# Altium footprint library Энкодеры.PcbLib: 1 footprints
Each footprint in its own frame and in the unit in brackets; x right, y up, seen from the top. Pads: shape width x height; smd on the part's side, far side on the other; paste and mask are expansions set on the pad; w line width, h text height; cw(c..) or ccw(c..) is an arc to the next point about the centre after c.
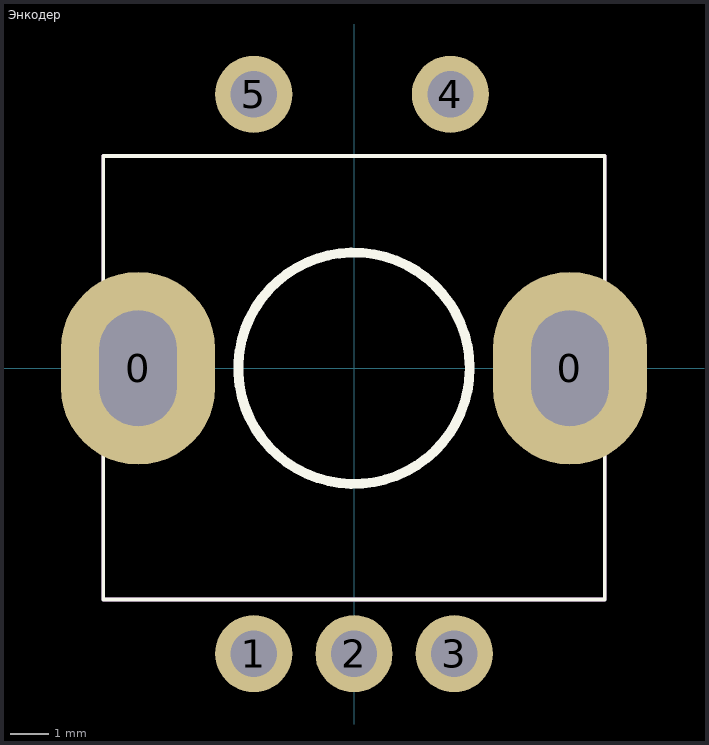
[diagram p0: the footprint, top view; thin cyan lines are the x and y axes]

## Энкодер [mm]
pads (7):
  oval 4x5 hole 2 slot 3 at 90 deg: 0(-5.6,0) 0(5.6,0)
  round 2 hole 1.2: 1(-2.6,-7.4) 2(0,-7.4) 3(2.6,-7.4) 4(2.5,7.1) 5(-2.6,7.1)
Top Overlay:
  circle w0.254: c0,0 r3
  lines w0.1: -6.5,-6 -6.5,5.5 6.5,5.5 6.5,-6 -6.5,-6
TopAssy:
  lines w0.1: -6.5,-6 6.5,-6 6.5,5.5 -6.5,5.5 -6.5,-6
  text ".Designator" at -3.8,-0.4 h1.52
3D body "ec11e15204a3.stp": height 24.5, standoff -3.5, extent -6.549,-7.725 6.549,7.225